# Altium footprint library MeanWell.PcbLib: 6 footprints
Each footprint in its own frame and in the unit in brackets; x right, y up, seen from the top. Pads: shape width x height; smd on the part's side, far side on the other; paste and mask are expansions set on the pad; w line width, h text height; cw(c..) or ccw(c..) is an arc to the next point about the centre after c.
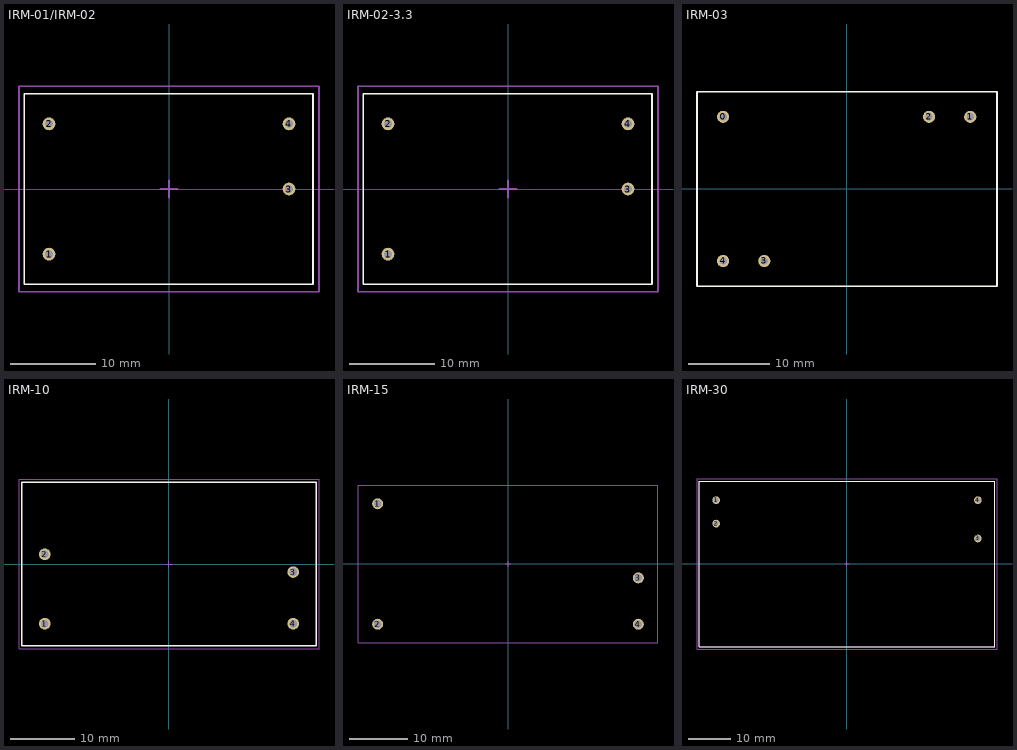
[diagram p0: the footprints below, top view; thin cyan lines are the x and y axes]

## IRM-01/IRM-02 [mm] "1W and 2W insulated power supply from MeanWell"
pads (4):
  round 1.5 hole 0.9: 1(-14,-7.6) 2(-14,7.6) 3(14,0) 4(14,7.6)
Top Overlay:
  lines w0.2: -16.9,-11.1 16.8,-11.1 16.8,11.1 -16.9,11.1 -16.9,-11.1
Courtyard Top:
  lines w0.2: -1,0 1,0 ; 0,-1 0,1 ; -17.5,-12 -17.5,12 17.5,12 17.5,-12 -17.5,-12
3D body: height 15, standoff 0, extent -16.9,-11.1 16.8,11.1

## IRM-02-3.3 [mm] "2W insulated power supply from MeanWell"
height 15
pads (4):
  round 1.5 hole 0.9: 1(-14,-7.6) 2(-14,7.6) 3(14,0) 4(14,7.6)
Top Overlay:
  lines w0.2: -16.9,-11.1 -16.9,11.1 16.8,11.1 16.8,-11.1 -16.9,-11.1
Courtyard Top:
  lines w0.2: -1,0 1,0 ; 0,-1 0,1 ; -17.5,-12 17.5,-12 17.5,12 -17.5,12 -17.5,-12
3D body: height 15, standoff 0, extent -16.9,-11.1 16.8,11.1

## IRM-03 [mm]
pads (5):
  round 1.5 hole 0.9: 0(-15.24,8.89) 1(15.24,8.89) 2(10.16,8.89) 3(-10.16,-8.89) 4(-15.24,-8.89)
Top Overlay:
  lines w0.2: -18.46,-12.01 18.54,-12.01 18.54,11.99 -18.46,11.99 -18.46,-12.01
3D body: height 15, standoff 0, extent -18.46,-12.01 18.54,11.99

## IRM-10 [mm] "10W AC/DC module"
pads (4):
  round 1.8 hole 1.2: 1(-19.25,-9.25) 2(-19.25,1.5) 3(19.25,-1.25) 4(19.25,-9.25)
Top Overlay:
  lines w0.2: -22.85,-12.7 22.85,-12.7 22.85,12.7 -22.85,12.7 -22.85,-12.7
Courtyard Top:
  lines w0.1: -0.5,0 0.5,0 ; 0,-0.5 0,0.5 ; -23.25,-13.1 -23.25,13.1 23.25,13.1 23.25,-13.1 -23.25,-13.1
3D body: height 21.5, standoff 0, extent -22.85,-12.7 22.85,12.7

## IRM-15 [mm] "15W, 52.4x27.2x24mm"
height 24
pads (4):
  round 1.9 hole 1.3: 1(-22.5,10.4) 2(-22.5,-10.4) 3(22.5,-2.4) 4(22.5,-10.4)
3D Top:
  lines w0.1: -25.9,13.6 25.9,13.6 25.9,-13.6 ; -25.9,13.6 -25.9,13.6 ; -25.9,13.6 -25.9,-13.6 25.9,-13.6 ; 25.9,-13.6 25.9,-13.6
Courtyard Top:
  lines w0.1: -0.5,0 0.5,0 ; 0,-0.5 0,0.5
3D body: height 24, standoff 0, extent -25.9,-13.6 25.9,13.6

## IRM-30 [mm]
height 24
pads (4):
  round 1.8 hole 1.2 unplated: 1(-30.75,15) 2(-30.75,9.5) 3(30.75,6) 4(30.75,15)
Top Overlay:
  lines w0.2: -34.75,-19.5 -34.75,19.5 34.75,19.5 34.75,-19.5 -34.75,-19.5
3D Top:
  lines w0.2: -34.75,-19.5 -34.75,19.5 34.75,19.5 34.75,-19.5 -34.75,-19.5
Courtyard Top:
  lines w0.2: -0.5,0 0.5,0 ; 0,-0.5 0,0.5 ; -35.25,-20 -35.25,20 35.25,20 35.25,-20 -35.25,-20
3D body: height 21.6, standoff -3.5, extent -34.75,-19.5 34.75,19.5